# Altium footprint library PcbLib1.PcbLib: 18 footprints (part 2 of 2)
Each footprint in its own frame and in the unit in brackets; x right, y up, seen from the top. Pads: shape width x height; smd on the part's side, far side on the other; paste and mask are expansions set on the pad; w line width, h text height; cw(c..) or ccw(c..) is an arc to the next point about the centre after c.
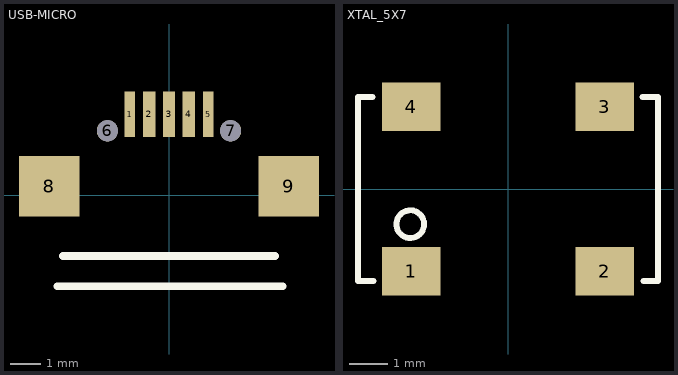
[diagram p1: the footprints below, top view; thin cyan lines are the x and y axes]

## USB-MICRO [mm]
pads (9):
  rect 0.35x1.5 smd: 1(-1.3,2.675) 5(1.3,2.675)
  rect 0.4x1.5 smd: 2(-0.65,2.675) 3(0,2.675) 4(0.65,2.675)
  round 0.7 hole 0.7 unplated: 6(-2.032,2.134) 7(2.032,2.134)
  rect 2x2 smd: 8(-3.95,0.3) 9(3.95,0.3)
Top Overlay:
  lines w0.254: -3.683,-3 3.75,-3 ; -3.5,-2 3.5,-2

## XTAL_5X7 [mil]
pads (4):
  rect 60x50 smd: 1(-100,-85) 2(100,-85) 3(100,85) 4(-100,85)
Top Overlay:
  circle w6: c-101,-36.32 r14.32
  lines w6: -140,95 -155,95 -155,-95 -139,-95 ; 139,95 155,95 155,-95 140,-95